# EAGLE library part OPT101 (library My_OPT)
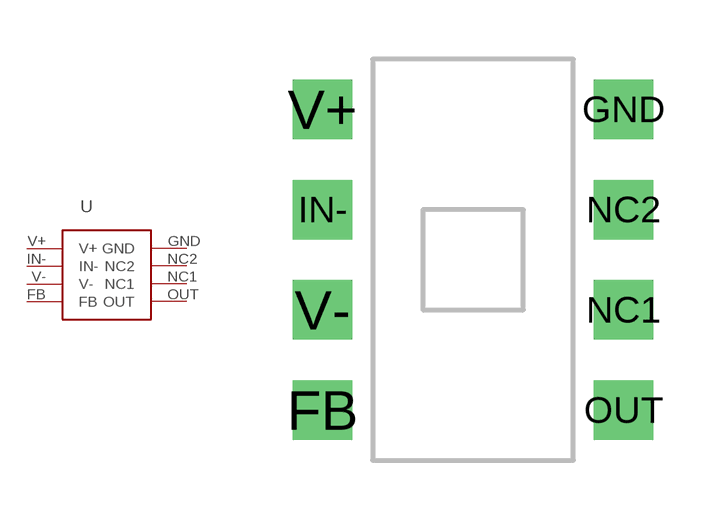
[diagram p0: symbol with the pads of OPT101; footprint OPT101]

Designator prefix -

## OPT101  [OPT101]
FB  FB
GND  GND
IN-  IN-
NC1  NC1
NC2  NC2
OUT  OUT
V+  V+
V-  V-

## Footprint OPT101 (pad centres in mm)
drill 1 square: FB -3.81,-3.81; GND 3.81,3.81; IN- -3.81,1.27; NC1 3.81,-1.27; NC2 3.81,1.27; OUT 3.81,-3.81; V+ -3.81,3.81; V- -3.81,-1.27